# EAGLE library part XC878_HSKA (library hsk_2012)
Infineon XC878 µC imLQFP64 - Symbol mit gruppierten ports
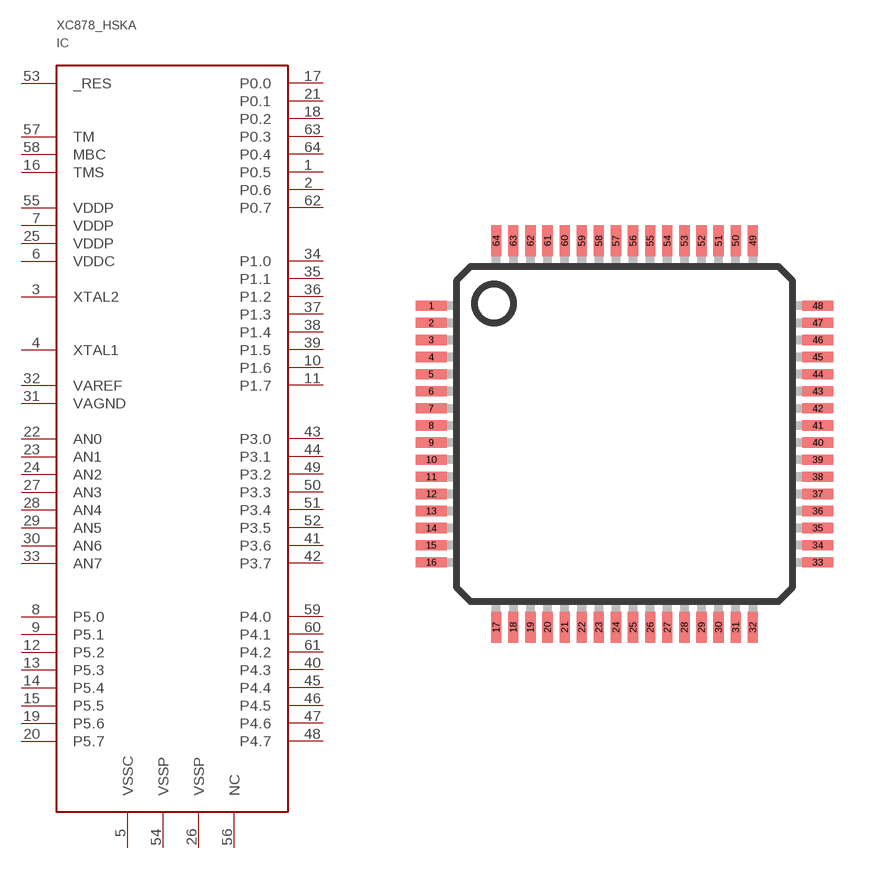
[diagram p10: symbol with the pads of LQFP-ST-64-2; footprint LQFP-ST-64-2]

Designator prefix IC

## XC878_HSKA""  [LQFP-ST-64-2]
1  P0.5
2  P0.6
3  XTAL2
4  XTAL1
5  VSSC
6  VDDC
7  VDDP
8  P5.0
9  P5.1
10  P1.6
11  P1.7
12  P5.2
13  P5.3
14  P5.4
15  P5.5
16  TMS
17  P0.0
18  P0.2
19  P5.6
20  P5.7
21  P0.1
22  AN0
23  AN1
24  AN2
25  VDDP
26  VSSP
27  AN3
28  AN4
29  AN5
30  AN6
31  VAGND
32  VAREF
33  AN7
34  P1.0
35  P1.1
36  P1.2
37  P1.3
38  P1.4
39  P1.5
40  P4.3
41  P3.6
42  P3.7
43  P3.0
44  P3.1
45  P4.4
46  P4.5
47  P4.6
48  P4.7
49  P3.2
50  P3.3
51  P3.4
52  P3.5
53  _RES
54  VSSP
55  VDDP
56  NC
57  TM
58  MBC
59  P4.0
60  P4.1
61  P4.2
62  P0.7
63  P0.3
64  P0.4

## Footprint LQFP-ST-64-2 (pad centres in mm)
64-Lead Low Profile Quad Flat Package [LQFP] (ST-64-2) COMPLIANT TO JEDEC STANDARDS MS-026-BCD Source: http://www.analog.com/UploadedFiles/Data_Sheets/288945048AD7C7019_20_1_2_4_5_6_7_0.pdf
smd 0.9 x 0.3: 1 -5.65,3.75; 2 -5.65,3.25; 3 -5.65,2.75; 4 -5.65,2.25; 5 -5.65,1.75; 6 -5.65,1.25; 7 -5.65,0.75; 8 -5.65,0.25; 9 -5.65,-0.25; 10 -5.65,-0.75; 11 -5.65,-1.25; 12 -5.65,-1.75; 13 -5.65,-2.25; 14 -5.65,-2.75; 15 -5.65,-3.25; 16 -5.65,-3.75; 33 5.65,-3.75; 34 5.65,-3.25; 35 5.65,-2.75; 36 5.65,-2.25; 37 5.65,-1.75; 38 5.65,-1.25; 39 5.65,-0.75; 40 5.65,-0.25; 41 5.65,0.25; 42 5.65,0.75; 43 5.65,1.25; 44 5.65,1.75; 45 5.65,2.25; 46 5.65,2.75; 47 5.65,3.25; 48 5.65,3.75
smd 0.3 x 0.9: 17 -3.75,-5.65; 18 -3.25,-5.65; 19 -2.75,-5.65; 20 -2.25,-5.65; 21 -1.75,-5.65; 22 -1.25,-5.65; 23 -0.75,-5.65; 24 -0.25,-5.65; 25 0.25,-5.65; 26 0.75,-5.65; 27 1.25,-5.65; 28 1.75,-5.65; 29 2.25,-5.65; 30 2.75,-5.65; 31 3.25,-5.65; 32 3.75,-5.65; 49 3.75,5.65; 50 3.25,5.65; 51 2.75,5.65; 52 2.25,5.65; 53 1.75,5.65; 54 1.25,5.65; 55 0.75,5.65; 56 0.25,5.65; 57 -0.25,5.65; 58 -0.75,5.65; 59 -1.25,5.65; 60 -1.75,5.65; 61 -2.25,5.65; 62 -2.75,5.65; 63 -3.25,5.65; 64 -3.75,5.65